# EAGLE library part LPC2101FBD48,151 (library NXP_By_element14_Batch_1)
Single-chip 16-bit/32-bit microcontrollers 8 kB/16 kB/32 kB flash with ISP/IAP, fast ports and 10-bit ADC
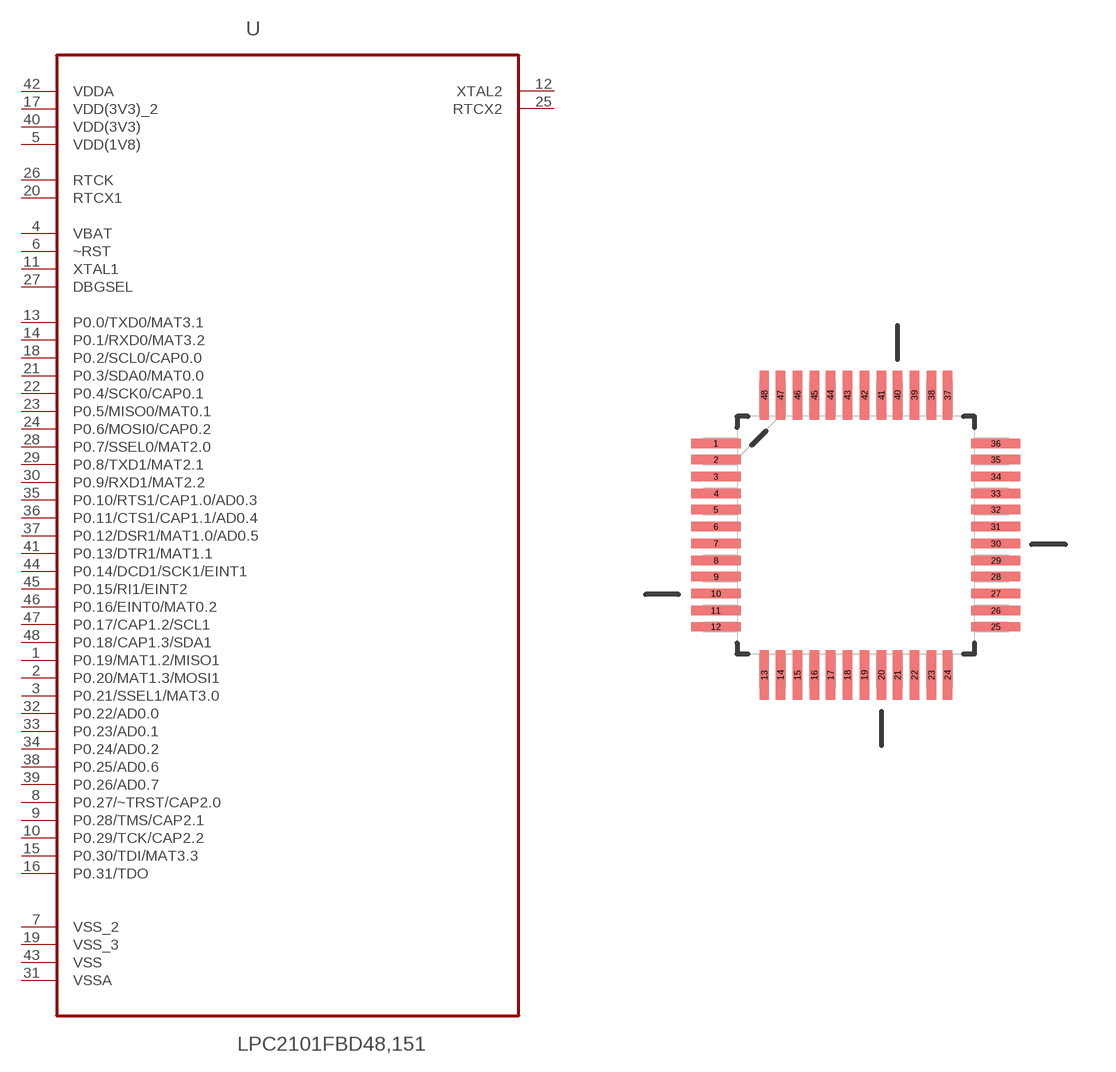
[diagram p353: symbol with the pads of QFP50P900X900X160-48N; footprint QFP50P900X900X160-48N]

Designator prefix U

## LPC2101FBD48,151 (MPN: LPC2101FBD48,151; OC_FARNELL: 1868296; OC_NEWARK: 70R5604; PACKAGE: LQFP-48; SUPPLIER: NXP)  [QFP50P900X900X160-48N]
1  P0.19/MAT1.2/MISO1
2  P0.20/MAT1.3/MOSI1
3  P0.21/SSEL1/MAT3.0
4  VBAT  pwr
5  VDD(1V8)  pwr
6  ~RST  in
7  VSS_2  pas
8  P0.27/~TRST/CAP2.0
9  P0.28/TMS/CAP2.1
10  P0.29/TCK/CAP2.2
11  XTAL1  in
12  XTAL2  out
13  P0.0/TXD0/MAT3.1
14  P0.1/RXD0/MAT3.2
15  P0.30/TDI/MAT3.3
16  P0.31/TDO
17  VDD(3V3)_2  pwr
18  P0.2/SCL0/CAP0.0
19  VSS_3  pas
20  RTCX1  in
21  P0.3/SDA0/MAT0.0
22  P0.4/SCK0/CAP0.1
23  P0.5/MISO0/MAT0.1
24  P0.6/MOSI0/CAP0.2
25  RTCX2  out
26  RTCK  in
27  DBGSEL  in
28  P0.7/SSEL0/MAT2.0
29  P0.8/TXD1/MAT2.1
30  P0.9/RXD1/MAT2.2
31  VSSA  pwr
32  P0.22/AD0.0
33  P0.23/AD0.1
34  P0.24/AD0.2
35  P0.10/RTS1/CAP1.0/AD0.3
36  P0.11/CTS1/CAP1.1/AD0.4
37  P0.12/DSR1/MAT1.0/AD0.5
38  P0.25/AD0.6
39  P0.26/AD0.7
40  VDD(3V3)  pwr
41  P0.13/DTR1/MAT1.1
42  VDDA  pwr
43  VSS  pas
44  P0.14/DCD1/SCK1/EINT1
45  P0.15/RI1/EINT2
46  P0.16/EINT0/MAT0.2
47  P0.17/CAP1.2/SCL1
48  P0.18/CAP1.3/SDA1

## Footprint QFP50P900X900X160-48N (pad centres in mm)
smd 1.473 x 0.279: 1 -4.191,2.743; 2 -4.191,2.261; 3 -4.191,1.753; 4 -4.191,1.245; 5 -4.191,0.762; 6 -4.191,0.254; 7 -4.191,-0.254; 8 -4.191,-0.762; 9 -4.191,-1.245; 10 -4.191,-1.753; 11 -4.191,-2.261; 12 -4.191,-2.743; 25 4.191,-2.743; 26 4.191,-2.261; 27 4.191,-1.753; 28 4.191,-1.245; 29 4.191,-0.762; 30 4.191,-0.254; 31 4.191,0.254; 32 4.191,0.762; 33 4.191,1.245; 34 4.191,1.753; 35 4.191,2.261; 36 4.191,2.743
smd 0.279 x 1.473: 13 -2.743,-4.191; 14 -2.261,-4.191; 15 -1.753,-4.191; 16 -1.245,-4.191; 17 -0.762,-4.191; 18 -0.254,-4.191; 19 0.254,-4.191; 20 0.762,-4.191; 21 1.245,-4.191; 22 1.753,-4.191; 23 2.261,-4.191; 24 2.743,-4.191; 37 2.743,4.191; 38 2.261,4.191; 39 1.753,4.191; 40 1.245,4.191; 41 0.762,4.191; 42 0.254,4.191; 43 -0.254,4.191; 44 -0.762,4.191; 45 -1.245,4.191; 46 -1.753,4.191; 47 -2.261,4.191; 48 -2.743,4.191